# Altium footprint library xEV_Flyback20W.PcbLib: 42 footprints (part 2 of 3)
Each footprint in its own frame and in the unit in brackets; x right, y up, seen from the top. Pads: shape width x height; smd on the part's side, far side on the other; paste and mask are expansions set on the pad; w line width, h text height; cw(c..) or ccw(c..) is an arc to the next point about the centre after c.
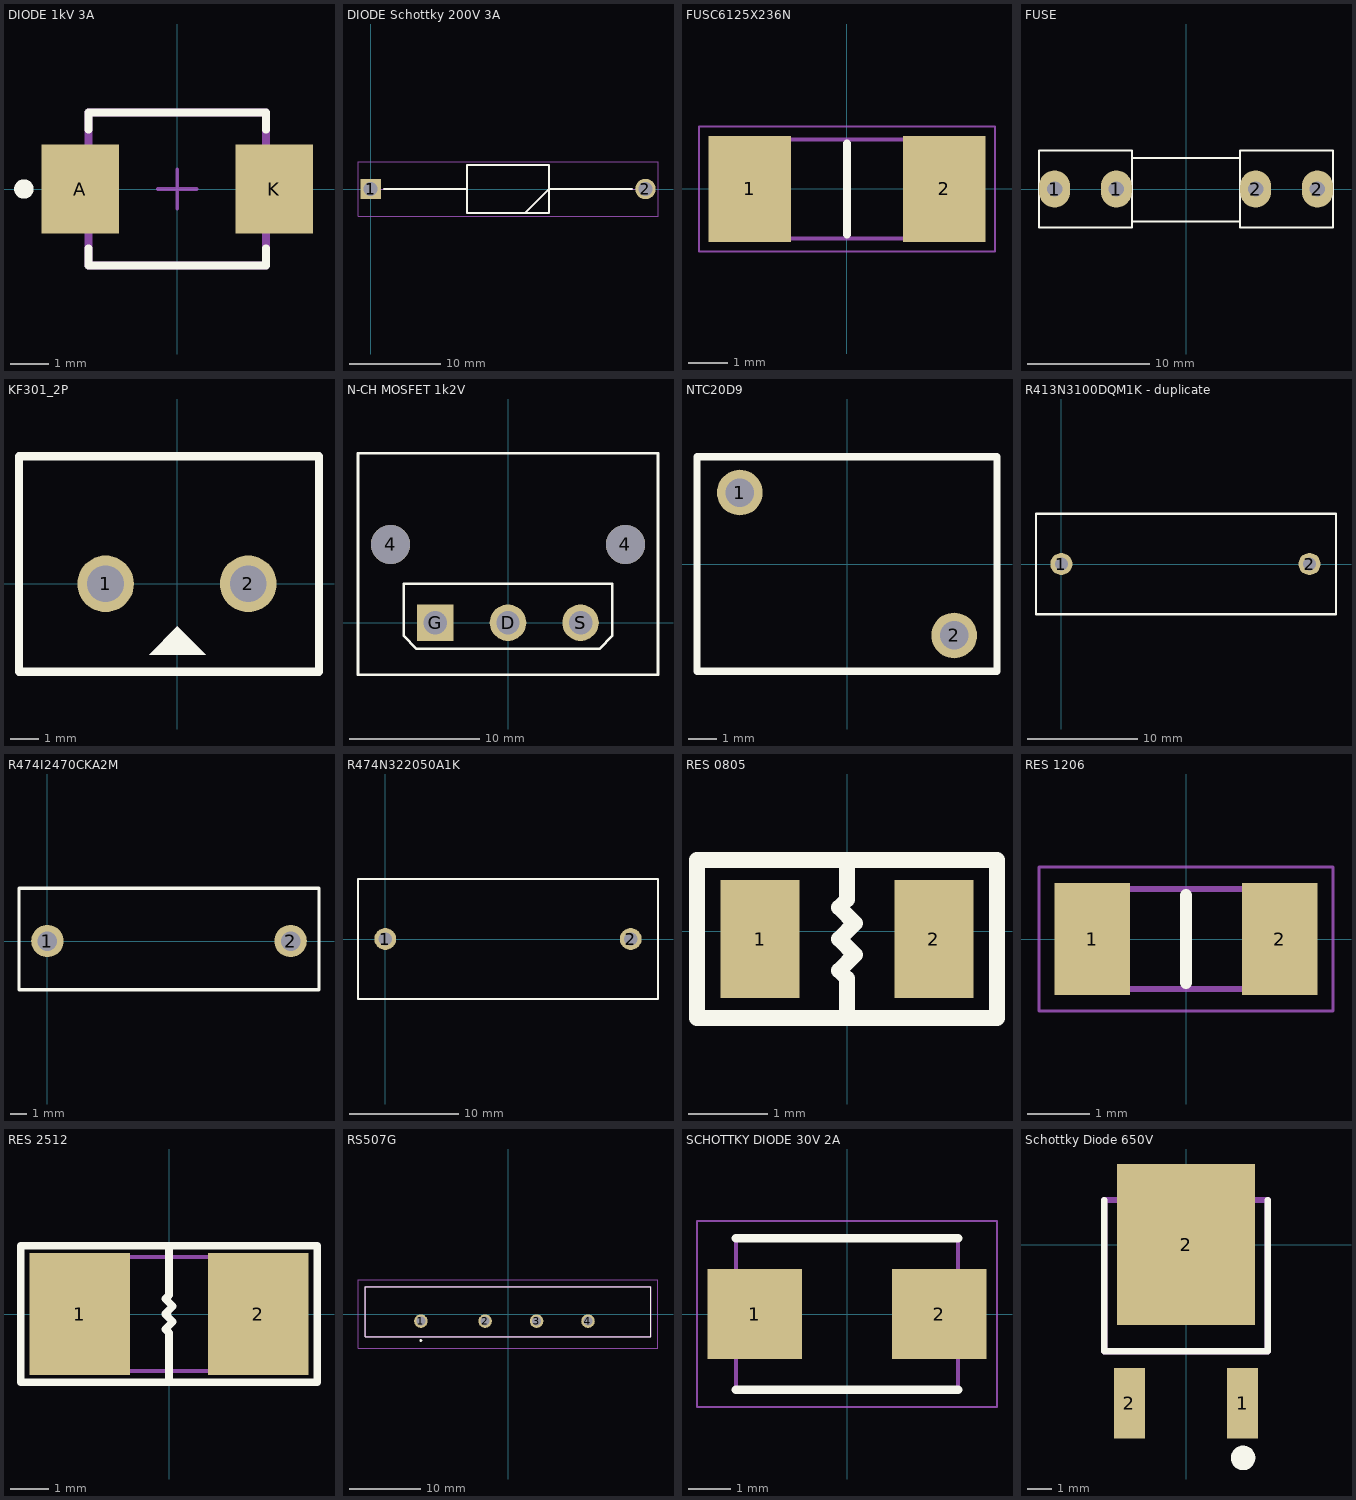
[diagram p1: the footprints below, top view; thin cyan lines are the x and y axes]

## DIODE 1kV 3A [mm]
pads (2):
  rect 2x2.3 smd paste+0: A(-2.5,0) K(2.5,0)
Top Overlay:
  circle w0.25: c-3.95,0 r0.125
  lines w0.2: -2.285,-1.525 -2.285,-1.97 2.285,-1.97 2.285,-1.525 ; -2.285,1.525 -2.285,1.97 2.285,1.97 2.285,1.525
Top 3D Body:
  lines w0.2: -2.285,-1.97 2.285,-1.97 2.285,1.97 -2.285,1.97 -2.285,-1.97
Top Component Center:
  lines w0.1: -0.5,0 0.5,0 ; 0,-0.5 0,0.5
3D body "Diode_Diodes_Inc_SMBJ24A-13-F_eec.STEP": height 2.5, standoff 0, extent -2.658,-1.805 2.637,1.815

## DIODE Schottky 200V 3A [mm]
pads (2):
  rect 2.25x2.25 hole 1.5: 1(0,0)
  round 2.25 hole 1.5: 2(30.2,0)
Top Overlay:
  lines w0.2: 1.475,0 10.6,0 ; 16.975,-2.625 19.625,0.025 ; 19.6,0 28.725,0 ; 10.6,-2.65 19.6,-2.65 19.6,2.65 10.6,2.65 10.6,-2.65
Mechanical 13:
  lines w0.1: 0,0 10.6,0 ; 17,-2.6 19.65,0.05 ; 19.6,0 30.2,0 ; 10.6,-2.65 19.6,-2.65 19.6,2.65 10.6,2.65 10.6,-2.65
Mechanical 15:
  lines w0.05: -1.375,-3 31.575,-3 31.575,3 -1.375,3 -1.375,-3
3D body "HER303-T.stp": height 5.6, standoff -5.6, extent -0.645,-2.797 30.85,2.797

## FUSC6125X236N [mm]
pads (2):
  rect 2.07x2.66 smd: 1(-2.45,0) 2(2.45,0)
Top Overlay:
  lines w0.2: 0,-1.145 0,1.145
Mechanical 13:
  lines w0.1: -3.05,-1.245 3.05,-1.245 3.05,1.245 -3.05,1.245 -3.05,-1.245
Mechanical 15:
  lines w0.05: -3.735,-1.58 3.735,-1.58 3.735,1.58 -3.735,1.58 -3.735,-1.58
3D body "SF-2410FP200W-2.stp": height 2.16, standoff 0, extent -3.05,-1.245 3.05,1.245

## FUSE [mil] "De Fuse"
pads (4):
  oval 100x120 hole 50: 1(-425,0) 1(-225,0) 2(225,0) 2(425,0)
Top Overlay:
  lines w7: -175,-105 175,-105 ; -175,100 175,100 ; -475,-125 -175,-125 -175,125 -475,125 -475,-125 ; 175,-125 175,125 475,125 475,-125 175,-125
3D body "SW3dPS-Fuse Small 1A.STEP": height 370.39, standoff 169.61, extent -384.8,-98 390.8,102.79
3D body "SW3dPS-Fuse Leg_2009.STEP": height 377.88, standoff -129.94, extent -448,-117 -208,126.71
3D body "SW3dPS-Fuse Leg_2009.STEP": height 377.88, standoff -129.94, extent 219,-116.71 459,127

## KF301_2P [mm] "Header Power 2 pins Type: KF301, 2 pins, 200mil (5.08mm) pitch"
pads (2):
  round 2 hole 1.3 mask+0.1: 1(-2.54,0) 2(2.5,0)
Top Overlay:
  region: 0,-1.5 1,-2.5 -1,-2.5
  lines w0.3: -5.6,-3.1 -5.6,4.5 5,4.5 5,0 5,-3.1 -5.6,-3.1
Top HCB:
  lines w0.05: -5.6,-3.1 5,-3.1 5,0 5,4.5 -5.6,4.5 -5.6,-3.1
3D body "User Library-Terminal-Screw-3A-2way.STEP": height 10, standoff -3, extent -5.6,-3 5,4.6

## N-CH MOSFET 1k2V [mm]
pads (5):
  round 3 hole 3 unplated: 4(-9,6) 4(9,6)
  round 2.8 hole 1.8: D(0,0) S(5.56,0)
  rect 2.8x2.8 hole 1.8: G(-5.56,0)
Top Overlay:
  lines w0.2: -11.5,-4 -11.5,13 11.5,13 11.5,-4 -11.5,-4 ; -8,-1 -8,3 8,3 8,-1 7,-2 -7,-2 -8,-1
3D body "heatsink for the transistor in the case TO-220.STEP": height 25, standoff -4, extent -11.5,-4 11.5,13
3D body "NVHL160N120SC1.stp": height 24.38, standoff -41.14, extent -7.81,-1.865 7.81,2.955

## NTC20D9 [mm]
pads (2):
  round 1.6 hole 1 paste+0 mask+0.1: 1(-3.75,2.5) 2(3.75,-2.5)
Top Overlay:
  lines w0.254: -5.25,-3.75 5.25,-3.75 5.25,3.75 -5.25,3.75 -5.25,-3.75

## R413N3100DQM1K - duplicate [mm] "0.1 µF Film Capacitor 300V 1000V (1kV) Polypropylene (PP), Metallized Radial"
pads (2):
  round 2 hole 1.2: 1(0,0) 2(22.5,0)
Top Overlay:
  lines w0.2: -2.3,-4.55 24.9,-4.55 24.9,4.55 -2.3,4.55 -2.3,-4.55
3D body "R413N3100DQM1K.step": height 17.1, standoff -19, extent -2.1,-4.353 24.7,4.353

## R474I2470CKA2M [mm]
pads (2):
  round 2 hole 1.2: 1(0,0) 2(15,0)
Top Overlay:
  lines w0.2: -1.75,-3 -1.75,3.25 16.75,3.25 16.75,-3 -1.75,-3
3D body "R474I2470CKA2M.step": height 17.6, standoff -19, extent -1.65,-3 16.65,3.205

## R474N322050A1K [mm]
pads (2):
  round 2 hole 1.2: 1(0,0) 2(22.5,0)
Top Overlay:
  lines w0.2: -2.5,-5.5 25,-5.5 25,5.5 -2.5,5.5 -2.5,-5.5
3D body "R474N322050A1K.step": height 20.1, standoff -27, extent -2.15,-5.705 24.65,5.5

## RES 0805 [mm] "Resistor 2.0 x 1.2 mm (LxW typ)"
pads (2):
  rect 1x1.5 smd: 1(-1.1,-0.1) 2(1.1,-0.1)
Top Overlay:
  lines w0.2: 0,-1 0,-0.6 -0.1,-0.5 ; 0,0.8 0,0.4 -0.1,0.3 0.1,0.1 -0.1,-0.1 0.1,-0.3 -0.1,-0.5 ; -0.1,-0.5 -0.1,-0.5 ; -1.9,-1.1 -1.9,0.6 -1.9,0.9 1.9,0.9 1.9,-1.1 -1.9,-1.1
3D body "User Library-CR2012-0805.STEP": height 0.6, standoff 0, extent -1,-0.701 1,0.549

## RES 1206 [mm]
pads (2):
  rect 1.2x1.8 smd: 1(-1.5,0) 2(1.5,0)
Top Overlay:
  lines w0.2: 0,-0.7 0,0.7
Mechanical 13:
  lines w0.1: -1.6,-0.8 1.6,-0.8 1.6,0.8 -1.6,0.8 -1.6,-0.8
Mechanical 15:
  lines w0.05: -2.35,-1.15 2.35,-1.15 2.35,1.15 -2.35,1.15 -2.35,-1.15
3D body "CR1206-F_-2R00ELF.stp": height 0.75, standoff 0, extent -1.6,-0.8 1.6,0.8

## RES 2512 [mm]
pads (2):
  rect 2.65x3.2 smd: 1(-2.35,0) 2(2.35,0)
Top Overlay:
  lines w0.2: 0,-1.8 0,-0.9 ; 0,1.8 0,0.9 ; 0,-0.9 0,-0.5 ; 0,-0.9 0,-0.5 ; 0,-0.5 -0.1,-0.4 0.1,-0.2 -0.1,0 0.1,0.2 -0.1,0.4 0,0.5 ; 0,0.5 0,0.9 ; 0,0.5 0,0.9 ; -3.9,-1.8 -3.9,1.8 3.9,1.8 3.9,-1.8 -3.9,-1.8
Mechanical 13:
  lines w0.1: -3.175,-1.5 3.175,-1.5 3.175,1.5 -3.175,1.5 -3.175,-1.5
Mechanical 15:
  lines w0.05: -3.925,-1.85 3.925,-1.85 3.925,1.85 -3.925,1.85 -3.925,-1.85
3D body "TLR3A30DR0015FTDG.stp": height 0.8, standoff 0, extent -3.175,-1.5 3.175,1.5

## RS507G [mm]
pads (4):
  round 1.905 hole 1.27: 1(-12.2,-1) 2(-3.2,-1) 3(4,-1) 4(11.2,-1)
Top Overlay:
  lines w0.1: -20,-3.2 -20,3.8 20,3.8 20,-3.2 -20,-3.2
  lines w0.2: -12.3,-3.7 ccw(c-12.2,-3.7) -12.1,-3.7 ccw(c-12.2,-3.7) -12.3,-3.7
Mechanical 13:
  lines w0.2: -20,-3.2 -20,3.8 20,3.8 20,-3.2 -20,-3.2
Mechanical 15:
  lines w0.1: -21,-4.8 -21,4.8 21,4.8 21,-4.8 -21,-4.8
3D body "RS507-G.stp": height 22.1, standoff -5, extent -20,-3.2 20,3.8

## SCHOTTKY DIODE 30V 2A [mm]
pads (2):
  rect 2.25x2.15 smd: 1(-2.2,0) 2(2.2,0)
Top Overlay:
  lines w0.2: -2.648,-1.81 2.648,-1.81 ; -2.648,1.81 2.648,1.81
Mechanical 13:
  lines w0.1: -2.648,-1.81 -2.648,1.81 2.648,1.81 2.648,-1.81 -2.648,-1.81
Mechanical 15:
  lines w0.05: -3.575,-2.22 -3.575,2.22 3.575,2.22 3.575,-2.22 -3.575,-2.22
3D body "B230-13-F.stp": height 2.5, standoff 0, extent -2.648,-1.81 2.648,1.81

## Schottky Diode 650V [mm]
pads (3):
  rect 1.25x2.85 smd: 1(2.28,-6.4) 2(-2.28,-6.4)
  rect 5.55x6.5 smd: 2(0,0)
Top Overlay:
  circle w0.5: c2.3,-8.6 r0.245
  lines w0.254: -3.3,1.8 -3.3,-4.3 3.3,-4.3 3.3,1.8
Mechanical 13:
  lines w0.254: -3.3,-4.3 3.3,-4.3 3.3,1.8 -3.3,1.8 -3.3,-4.3
3D body "FFSD08120A.stp": height 2.39, standoff -0.13, extent -3.365,-7.39 3.365,3.02